# Altium footprint library Schematic_Modules_NES.PcbLib: 5 footprints
Each footprint in its own frame and in the unit in brackets; x right, y up, seen from the top. Pads: shape width x height; smd on the part's side, far side on the other; paste and mask are expansions set on the pad; w line width, h text height; cw(c..) or ccw(c..) is an arc to the next point about the centre after c.
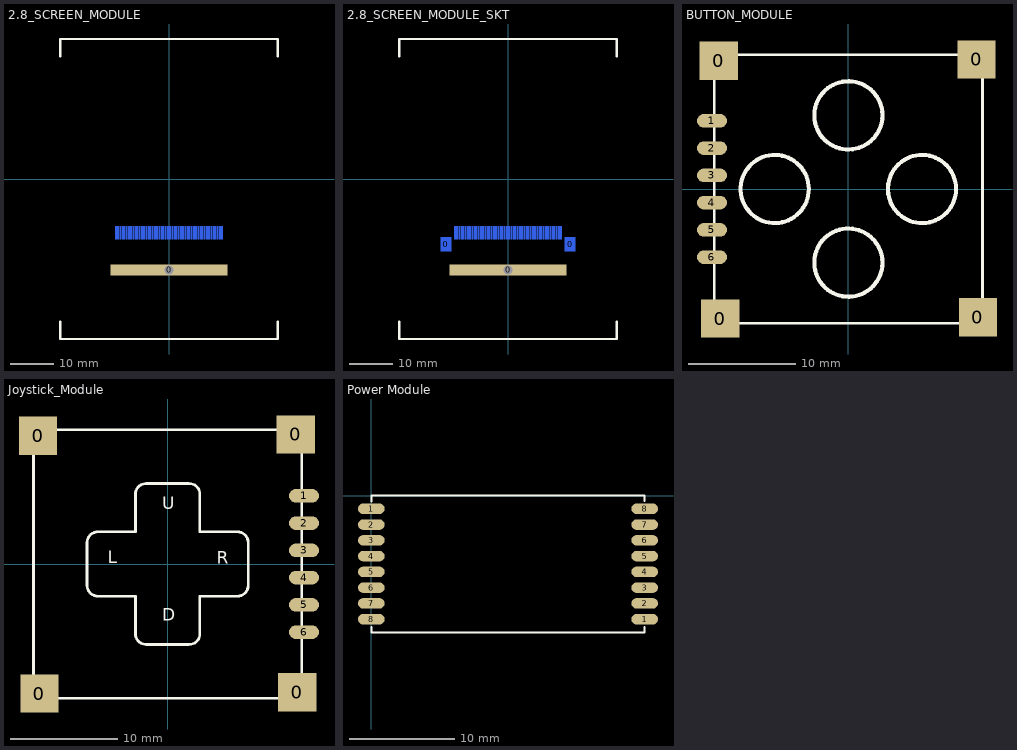
[diagram p0: the footprints below, top view; thin cyan lines are the x and y axes]

## 2.8_SCREEN_MODULE [mm] "2.8\" Screen Module"
pads (51):
  rect 27x2.5 hole 2 square: 0(0,-21)
  rect 0.3x3 smd far side: 1(12.25,-12.45) 2(11.75,-12.45) 3(11.25,-12.45) 4(10.75,-12.45) 5(10.25,-12.45) 6(9.75,-12.45) 7(9.25,-12.45) 8(8.75,-12.45) 9(8.25,-12.45) 10(7.75,-12.45) 11(7.25,-12.45) 12(6.75,-12.45) 13(6.25,-12.45) 14(5.75,-12.45) 15(5.25,-12.45) 16(4.75,-12.45) 17(4.25,-12.45) 18(3.75,-12.45) 19(3.25,-12.45) 20(2.75,-12.45) 21(2.25,-12.45) 22(1.75,-12.45) 23(1.25,-12.45) 24(0.75,-12.45) 25(0.25,-12.45) 26(-0.25,-12.45) 27(-0.75,-12.45) 28(-1.25,-12.45) 29(-1.75,-12.45) 30(-2.25,-12.45) 31(-2.75,-12.45) 32(-3.25,-12.45) 33(-3.75,-12.45) 34(-4.25,-12.45) 35(-4.75,-12.45) 36(-5.25,-12.45) 37(-5.75,-12.45) 38(-6.25,-12.45) 39(-6.75,-12.45) 40(-7.25,-12.45) 41(-7.75,-12.45) 42(-8.25,-12.45) 43(-8.75,-12.45) 44(-9.25,-12.45) 45(-9.75,-12.45) 46(-10.25,-12.45) 47(-10.75,-12.45) 48(-11.25,-12.45) 49(-11.75,-12.45) 50(-12.25,-12.45)
Top Overlay:
  lines w0.508: -25.1,-32.95 -25.1,-36.95 25.1,-36.95 25.1,-32.95 ; -25.1,28.35 -25.1,32.35 25.1,32.35 25.1,28.35
Bottom Overlay:
  lines w0.254: -12.75,-19.583 -12.75,-11.95 ; 12.75,-11.95 12.751,-19.533

## 2.8_SCREEN_MODULE_SKT [mm] "2.8\" Screen Module"
pads (53):
  rect 2.4x3.2 smd far side: 0(-14.35,-15.05) 0(14.35,-15.05)
  rect 27x2.5 hole 2 square: 0(0,-21)
  rect 0.3x3 smd far side: 1(12.25,-12.45) 2(11.75,-12.45) 3(11.25,-12.45) 4(10.75,-12.45) 5(10.25,-12.45) 6(9.75,-12.45) 7(9.25,-12.45) 8(8.75,-12.45) 9(8.25,-12.45) 10(7.75,-12.45) 11(7.25,-12.45) 12(6.75,-12.45) 13(6.25,-12.45) 14(5.75,-12.45) 15(5.25,-12.45) 16(4.75,-12.45) 17(4.25,-12.45) 18(3.75,-12.45) 19(3.25,-12.45) 20(2.75,-12.45) 21(2.25,-12.45) 22(1.75,-12.45) 23(1.25,-12.45) 24(0.75,-12.45) 25(0.25,-12.45) 26(-0.25,-12.45) 27(-0.75,-12.45) 28(-1.25,-12.45) 29(-1.75,-12.45) 30(-2.25,-12.45) 31(-2.75,-12.45) 32(-3.25,-12.45) 33(-3.75,-12.45) 34(-4.25,-12.45) 35(-4.75,-12.45) 36(-5.25,-12.45) 37(-5.75,-12.45) 38(-6.25,-12.45) 39(-6.75,-12.45) 40(-7.25,-12.45) 41(-7.75,-12.45) 42(-8.25,-12.45) 43(-8.75,-12.45) 44(-9.25,-12.45) 45(-9.75,-12.45) 46(-10.25,-12.45) 47(-10.75,-12.45) 48(-11.25,-12.45) 49(-11.75,-12.45) 50(-12.25,-12.45)
Top Overlay:
  lines w0.508: -25.1,-32.95 -25.1,-36.95 25.1,-36.95 25.1,-32.95 ; -25.1,28.35 -25.1,32.35 25.1,32.35 25.1,28.35
Bottom Overlay:
  lines w0.254: -12.75,-19.583 -12.75,-11.95 ; 12.75,-11.95 12.751,-19.533

## BUTTON_MODULE [mil] "Footprint for Buttons Module"
pads (10):
  rect 140x140 smd: 0(-475,470) 0(-470,-475) 0(470,475) 0(475,-470)
  oval 110x50 smd: 1(-500,250) 2(-500,150) 3(-500,50) 4(-500,-50) 5(-500,-150) 6(-500,-250)
Top Overlay:
  circle w15: c270,0 r125
  circle w15: c0,270 r125
  circle w15: c-270,0 r125
  circle w15: c0,-270 r125
  lines w10: -492.13,-492.13 492.13,-492.13 492.13,492.13 -492.13,492.13 -492.13,-492.13

## Joystick_Module [mil] "Footprint for Joystick Module"
pads (10):
  rect 140x140 smd: 0(-475,470) 0(-470,-475) 0(470,475) 0(475,-470)
  oval 110x50 smd: 1(500,250) 2(500,150) 3(500,50) 4(500,-50) 5(500,-150) 6(500,-250)
Top Overlay:
  lines w10: 118.11,118.11 118.11,255.91 ccw(c78.74,255.91) 78.74,295.28 -78.74,295.28 ccw(c-78.74,255.91) -118.11,255.91 -118.11,118.11 -255.91,118.11 ccw(c-255.91,78.74) -295.28,78.74 -295.28,-78.74 ccw(c-255.91,-78.74) -255.91,-118.11 -118.11,-118.11 -118.11,-255.91 ccw(c-78.74,-255.91) -78.74,-295.28 78.74,-295.28 ccw(c78.74,-255.91) 118.11,-255.91 118.11,-118.11 255.91,-118.11 ccw(c255.91,-78.74) 295.28,-78.74 295.28,78.74 ccw(c255.91,78.74) 255.91,118.11 120,118.11 ; -492.13,-492.13 -492.13,492.13 492.13,492.13 492.13,-492.13 -492.13,-492.13
  text "D" at -20,-225 h78.74
  text "R" at 180,-15 h78.74
  text "L" at -220,-14.56 h78.74
  text "U" at -20,185 h78.74

## Power Module [mm]
pads (16):
  oval 2.54x1 smd: 1(0,-1.25) 1(26,-11.75) 2(0,-2.75) 2(26,-10.25) 3(0,-4.25) 3(26,-8.75) 4(0,-5.75) 4(26,-7.25) 5(0,-7.25) 5(26,-5.75) 6(0,-8.75) 6(26,-4.25) 7(0,-10.25) 7(26,-2.75) 8(0,-11.75) 8(26,-1.25)
Top Overlay:
  lines w0.203: 0,-12.5 0,-13 26,-13 26,-12.5 ; 0,-0.533 0,-0.033 ; 0,-0.5 0,0 26,0 26,-0.5